# EAGLE library part MAX4477/MAX4489-OPAMPS (library gele.maximopamps_44xx)
MAX4477, MAX4489 Low-Noise, Low-Distortion, Wide-Band, Rail-to-Rail dual Op Amp These amplifiers have rail-to-rail outputs. Their input common-mode voltage range includes ground. The MAX4477 is unity-gain stable with a gain-bandwidth product of 10MHz. The MAX4477 is 5V/V -gain stable with a gain-bandwidth product of 42MHz. Features: ♦ Low Input Voltage-Noise Density: 4.5nV/√Hz ♦ Low Input Current-Noise Density: 0.5fA/√Hz ♦ Low Distortion: 0.0002% THD+N (1kΩ load) ♦ Single-Supply Operation from +2.7V to +5.5V source used: http://www.farnell.com/datasheets/28851.pdf eagle design - by A.Genchev
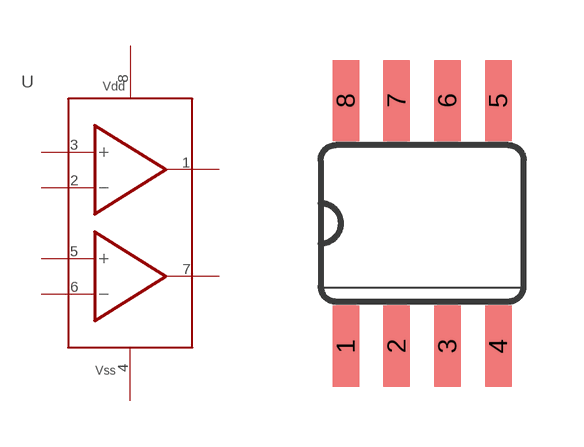
[diagram p2: symbol with the pads of SO08; footprint SO08]

Designator prefix -

## MAX4477/MAX4489-OPAMPS  [SO08]
1  OUT#1  out
2  -IN#1  in
3  +IN#1  in
4  VSS  pwr
5  +IN#2  in
6  -IN#2  in
7  OUT#2  out
8  VDD  pwr

## Footprint SO08 (pad centres in mm)
Small outline SO-8, SO-08, SO8 package.
smd 0.66 x 2.032: 1 -1.905,-3.073; 2 -0.635,-3.073; 3 0.635,-3.073; 4 1.905,-3.073; 5 1.905,3.073; 6 0.635,3.073; 7 -0.635,3.073; 8 -1.905,3.073